# EAGLE library part ANALOG_DEVICES_ADG731BSUZ (library Upverter Library)
ADI-ADG731-SU-48
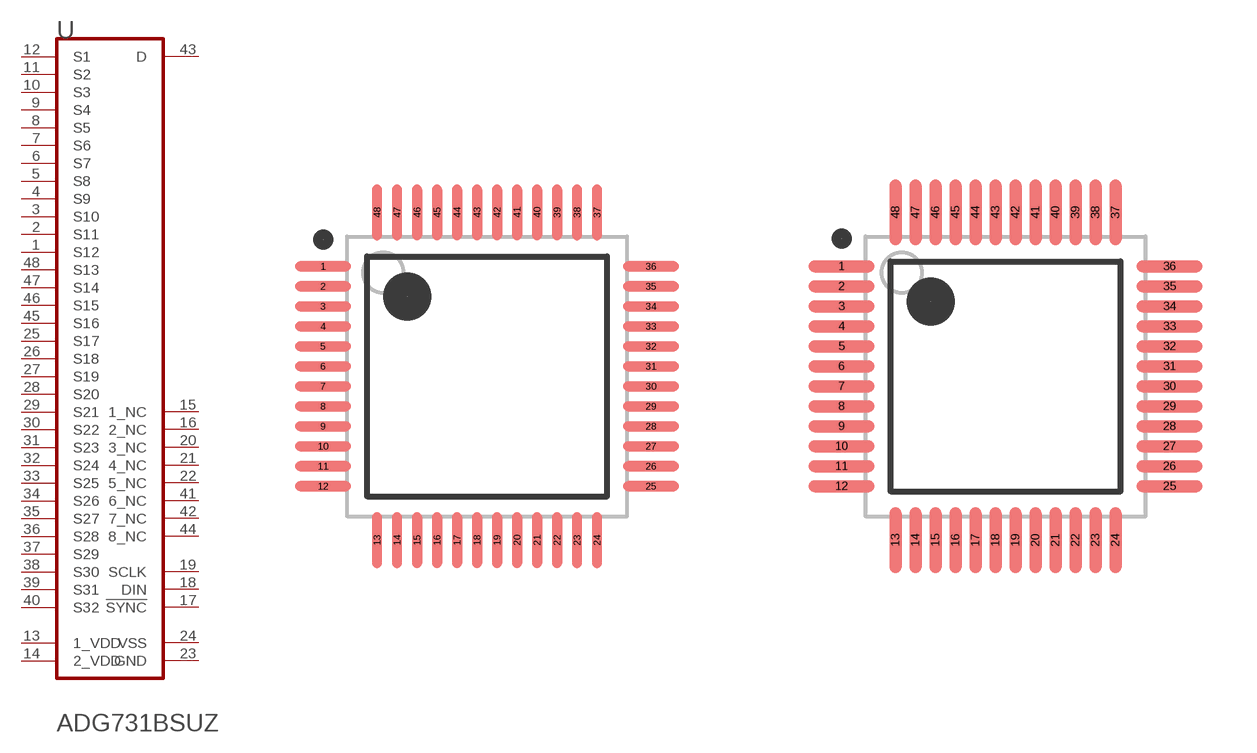
[diagram p0: symbol with the pads of ANALOG_DEVICES_ADG731BSUZ_0; footprints ANALOG_DEVICES_ADG731BSUZ_0, ANALOG_DEVICES_ADG731BSUZ_1]

Designator prefix U

## ANALOG_DEVICES_ADG731BSUZANALOG_DEVICES_ADG731BSUZ_0_0 (Bandwidth_Hz: 18M; Code__JEDEC: MS-026ABC; Component_Link_1_Description: Manufacturer URL; Component_Link_1_URL: http://www.analog.com/en/index.html; Component_Link_3_Description: Package Specification; Component_Link_3_URL: http://www.analog.com/static/imported-files/packages/470644706845302410119987SU48_7x7.pdf; Datasheet_Version: Rev. A; MF: Analog Devices; MPN: ADG731BSUZ; Max_Analog_Signal_Range: Vss to Vdd; Mounting_Technology: Surface Mount; Package_Description: 48-Pin Thin Plastic Quad Flat Package, Body 7 x 7 mm, Pitch 0.5 mm; Packing: Tray; Ron_ohms: 4; Supply_V_Guar_Performance: Dual_(+/-2.5V), Single_(+3V), Single_(+5V); ciiva_ids: 19300650; datasheet: http://www.analog.com/static/imported-files/data_sheets/ADG725_731.pdf; footprint_variant_name_0: Level C; footprint_variant_name_1: Level B; footprint_variant_name_2: Level A; import_ts: 1521857462; imported: yes; imported_from: vault; package: SU-48; pin_0_0_39_inside_edge: clock; prefix: U; release_date: 1391089390; t_transition_s: 42n; vault_guid: 76926279-8684-441A-80C4-6DFBDCC65274; vault_revision: 8C21F4D2-BBAB-4E50-B4EF-AC8EEE00B0BF)  [ANALOG_DEVICES_ADG731BSUZ_0]
1  S12  pas
2  S11  pas
3  S10  pas
4  S9  pas
5  S8  pas
6  S7  pas
7  S6  pas
8  S5  pas
9  S4  pas
10  S3  pas
11  S2  pas
12  S1  pas
13  1_VDD  pwr
14  2_VDD  pwr
15  1_NC  pas
16  2_NC  pas
17  !SYNC!  in
18  DIN  in
19  SCLK  in
20  3_NC  pas
21  4_NC  pas
22  5_NC  pas
23  GND  pwr
24  VSS  pwr
25  S17  pas
26  S18  pas
27  S19  pas
28  S20  pas
29  S21  pas
30  S22  pas
31  S23  pas
32  S24  pas
33  S25  pas
34  S26  pas
35  S27  pas
36  S28  pas
37  S29  pas
38  S30  pas
39  S31  pas
40  S32  pas
41  6_NC  pas
42  7_NC  pas
43  D  pas
44  8_NC  pas
45  S16  pas
46  S15  pas
47  S14  pas
48  S13  pas

## ANALOG_DEVICES_ADG731BSUZANALOG_DEVICES_ADG731BSUZ_0_1 (Bandwidth_Hz: 18M; Code__JEDEC: MS-026ABC; Component_Link_1_Description: Manufacturer URL; Component_Link_1_URL: http://www.analog.com/en/index.html; Component_Link_3_Description: Package Specification; Component_Link_3_URL: http://www.analog.com/static/imported-files/packages/470644706845302410119987SU48_7x7.pdf; Datasheet_Version: Rev. A; MF: Analog Devices; MPN: ADG731BSUZ; Max_Analog_Signal_Range: Vss to Vdd; Mounting_Technology: Surface Mount; Package_Description: 48-Pin Thin Plastic Quad Flat Package, Body 7 x 7 mm, Pitch 0.5 mm; Packing: Tray; Ron_ohms: 4; Supply_V_Guar_Performance: Dual_(+/-2.5V), Single_(+3V), Single_(+5V); ciiva_ids: 19300650; datasheet: http://www.analog.com/static/imported-files/data_sheets/ADG725_731.pdf; footprint_variant_name_0: Level C; footprint_variant_name_1: Level B; footprint_variant_name_2: Level A; import_ts: 1521857462; imported: yes; imported_from: vault; package: SU-48; pin_0_0_39_inside_edge: clock; prefix: U; release_date: 1391089390; t_transition_s: 42n; vault_guid: 76926279-8684-441A-80C4-6DFBDCC65274; vault_revision: 8C21F4D2-BBAB-4E50-B4EF-AC8EEE00B0BF)  [ANALOG_DEVICES_ADG731BSUZ_1]
Pads as for ANALOG_DEVICES_ADG731BSUZ_0

## ANALOG_DEVICES_ADG731BSUZANALOG_DEVICES_ADG731BSUZ_0_2 (Bandwidth_Hz: 18M; Code__JEDEC: MS-026ABC; Component_Link_1_Description: Manufacturer URL; Component_Link_1_URL: http://www.analog.com/en/index.html; Component_Link_3_Description: Package Specification; Component_Link_3_URL: http://www.analog.com/static/imported-files/packages/470644706845302410119987SU48_7x7.pdf; Datasheet_Version: Rev. A; MF: Analog Devices; MPN: ADG731BSUZ; Max_Analog_Signal_Range: Vss to Vdd; Mounting_Technology: Surface Mount; Package_Description: 48-Pin Thin Plastic Quad Flat Package, Body 7 x 7 mm, Pitch 0.5 mm; Packing: Tray; Ron_ohms: 4; Supply_V_Guar_Performance: Dual_(+/-2.5V), Single_(+3V), Single_(+5V); ciiva_ids: 19300650; datasheet: http://www.analog.com/static/imported-files/data_sheets/ADG725_731.pdf; footprint_variant_name_0: Level C; footprint_variant_name_1: Level B; footprint_variant_name_2: Level A; import_ts: 1521857462; imported: yes; imported_from: vault; package: SU-48; pin_0_0_39_inside_edge: clock; prefix: U; release_date: 1391089390; t_transition_s: 42n; vault_guid: 76926279-8684-441A-80C4-6DFBDCC65274; vault_revision: 8C21F4D2-BBAB-4E50-B4EF-AC8EEE00B0BF)  [ANALOG_DEVICES_ADG731BSUZ_2]
Pads as for ANALOG_DEVICES_ADG731BSUZ_0

## Footprint ANALOG_DEVICES_ADG731BSUZ_0 (pad centres in mm)
ADI-ADG731-SU-48
smd 1.4 x 0.25: 1 -4.1,2.75; 2 -4.1,2.25; 3 -4.1,1.75; 4 -4.1,1.25; 5 -4.1,0.75; 6 -4.1,0.25; 7 -4.1,-0.25; 8 -4.1,-0.75; 9 -4.1,-1.25; 10 -4.1,-1.75; 11 -4.1,-2.25; 12 -4.1,-2.75; 25 4.1,-2.75; 26 4.1,-2.25; 27 4.1,-1.75; 28 4.1,-1.25; 29 4.1,-0.75; 30 4.1,-0.25; 31 4.1,0.25; 32 4.1,0.75; 33 4.1,1.25; 34 4.1,1.75; 35 4.1,2.25; 36 4.1,2.75
smd 0.25 x 1.4: 13 -2.75,-4.1; 14 -2.25,-4.1; 15 -1.75,-4.1; 16 -1.25,-4.1; 17 -0.75,-4.1; 18 -0.25,-4.1; 19 0.25,-4.1; 20 0.75,-4.1; 21 1.25,-4.1; 22 1.75,-4.1; 23 2.25,-4.1; 24 2.75,-4.1; 37 2.75,4.1; 38 2.25,4.1; 39 1.75,4.1; 40 1.25,4.1; 41 0.75,4.1; 42 0.25,4.1; 43 -0.25,4.1; 44 -0.75,4.1; 45 -1.25,4.1; 46 -1.75,4.1; 47 -2.25,4.1; 48 -2.75,4.1

## Footprint ANALOG_DEVICES_ADG731BSUZ_1 (pad centres in mm)
ADI-ADG731-SU-48
smd 1.65 x 0.3: 1 -4.1,2.75; 2 -4.1,2.25; 3 -4.1,1.75; 4 -4.1,1.25; 5 -4.1,0.75; 6 -4.1,0.25; 7 -4.1,-0.25; 8 -4.1,-0.75; 9 -4.1,-1.25; 10 -4.1,-1.75; 11 -4.1,-2.25; 12 -4.1,-2.75; 25 4.1,-2.75; 26 4.1,-2.25; 27 4.1,-1.75; 28 4.1,-1.25; 29 4.1,-0.75; 30 4.1,-0.25; 31 4.1,0.25; 32 4.1,0.75; 33 4.1,1.25; 34 4.1,1.75; 35 4.1,2.25; 36 4.1,2.75
smd 0.3 x 1.65: 13 -2.75,-4.1; 14 -2.25,-4.1; 15 -1.75,-4.1; 16 -1.25,-4.1; 17 -0.75,-4.1; 18 -0.25,-4.1; 19 0.25,-4.1; 20 0.75,-4.1; 21 1.25,-4.1; 22 1.75,-4.1; 23 2.25,-4.1; 24 2.75,-4.1; 37 2.75,4.1; 38 2.25,4.1; 39 1.75,4.1; 40 1.25,4.1; 41 0.75,4.1; 42 0.25,4.1; 43 -0.25,4.1; 44 -0.75,4.1; 45 -1.25,4.1; 46 -1.75,4.1; 47 -2.25,4.1; 48 -2.75,4.1

## Footprint ANALOG_DEVICES_ADG731BSUZ_2 (pad centres in mm)
ADI-ADG731-SU-48
smd 1.95 x 0.3: 1 -4.15,2.75; 2 -4.15,2.25; 3 -4.15,1.75; 4 -4.15,1.25; 5 -4.15,0.75; 6 -4.15,0.25; 7 -4.15,-0.25; 8 -4.15,-0.75; 9 -4.15,-1.25; 10 -4.15,-1.75; 11 -4.15,-2.25; 12 -4.15,-2.75; 25 4.15,-2.75; 26 4.15,-2.25; 27 4.15,-1.75; 28 4.15,-1.25; 29 4.15,-0.75; 30 4.15,-0.25; 31 4.15,0.25; 32 4.15,0.75; 33 4.15,1.25; 34 4.15,1.75; 35 4.15,2.25; 36 4.15,2.75
smd 0.3 x 1.95: 13 -2.75,-4.15; 14 -2.25,-4.15; 15 -1.75,-4.15; 16 -1.25,-4.15; 17 -0.75,-4.15; 18 -0.25,-4.15; 19 0.25,-4.15; 20 0.75,-4.15; 21 1.25,-4.15; 22 1.75,-4.15; 23 2.25,-4.15; 24 2.75,-4.15; 37 2.75,4.15; 38 2.25,4.15; 39 1.75,4.15; 40 1.25,4.15; 41 0.75,4.15; 42 0.25,4.15; 43 -0.25,4.15; 44 -0.75,4.15; 45 -1.25,4.15; 46 -1.75,4.15; 47 -2.25,4.15; 48 -2.75,4.15